# EAGLE library part MPM3610GQV-Z (library MPM3610GQV-Z)
Power Management Modules 24V/1A DC/DC Mini- Module Reg w Inductr Source: Datasheet <https://www.monolithicpower.com/pub/media/document/MPM3610_r1.01.pdf>
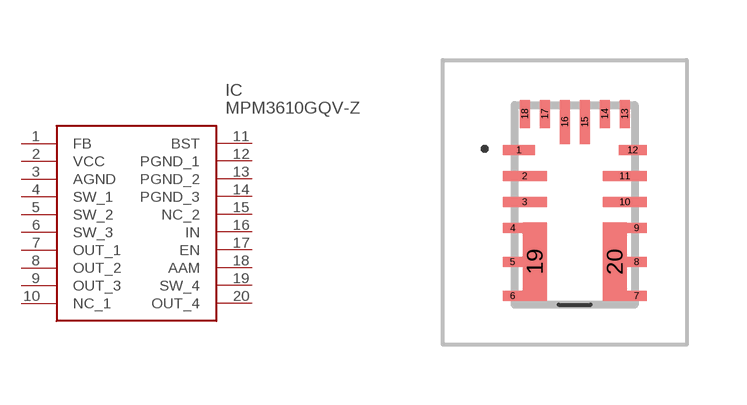
[diagram p0: symbol with the pads of MPM3606GQVZ; footprint MPM3606GQVZ]

Designator prefix IC

## MPM3610GQV-Z (Description: Power Management Modules 24V/1A DC/DC Mini- Module Reg w Inductr; Height: 1.65mm; Manufacturer_Name: Monolithic Power Systems (MPS); Manufacturer_Part_Number: MPM3610GQV-Z; Mouser_Part_Number: 946-MPM3610GQV-Z; Mouser_Price-Stock: https://www.mouser.co.uk/ProductDetail/Monolithic-Power-Systems-MPS/MPM3610GQV-Z?qs=uA8e7uFv8Fg%252B11Jn2RQvtw%3D%3D)  [MPM3606GQVZ]
1  FB
2  VCC
3  AGND
4  SW_1
5  SW_2
6  SW_3
7  OUT_1
8  OUT_2
9  OUT_3
10  NC_1
11  BST
12  PGND_1
13  PGND_2
14  PGND_3
15  NC_2
16  IN
17  EN
18  AAM
19  SW_4
20  OUT_4

## Footprint MPM3606GQVZ (pad centres in mm)
QFN-20 (3mmx5mmx1.6mm)_2020
smd 0.8 x 0.25: 1 0,0
smd 1.1 x 0.25: 2 0.15,-0.65; 3 0.15,-1.3; 10 2.65,-1.3; 11 2.65,-0.65
smd 0.5 x 0.25: 4 -0.15,-1.95; 5 -0.15,-2.8; 6 -0.15,-3.65; 7 2.95,-3.65; 8 2.95,-2.8; 9 2.95,-1.95
smd 0.7 x 0.25: 12 2.85,0
smd 0.25 x 0.7: 13 2.65,0.9; 14 2.15,0.9; 17 0.65,0.9; 18 0.15,0.9
smd 0.25 x 1.1: 15 1.65,0.7; 16 1.15,0.7
smd 0.6 x 1.95: 19 0.4,-2.8; 20 2.4,-2.8